# Altium footprint library TestPoint.PcbLib: 57 footprints (part 3 of 4)
Each footprint in its own frame and in the unit in brackets; x right, y up, seen from the top. Pads: shape width x height; smd on the part's side, far side on the other; paste and mask are expansions set on the pad; w line width, h text height; cw(c..) or ccw(c..) is an arc to the next point about the centre after c.
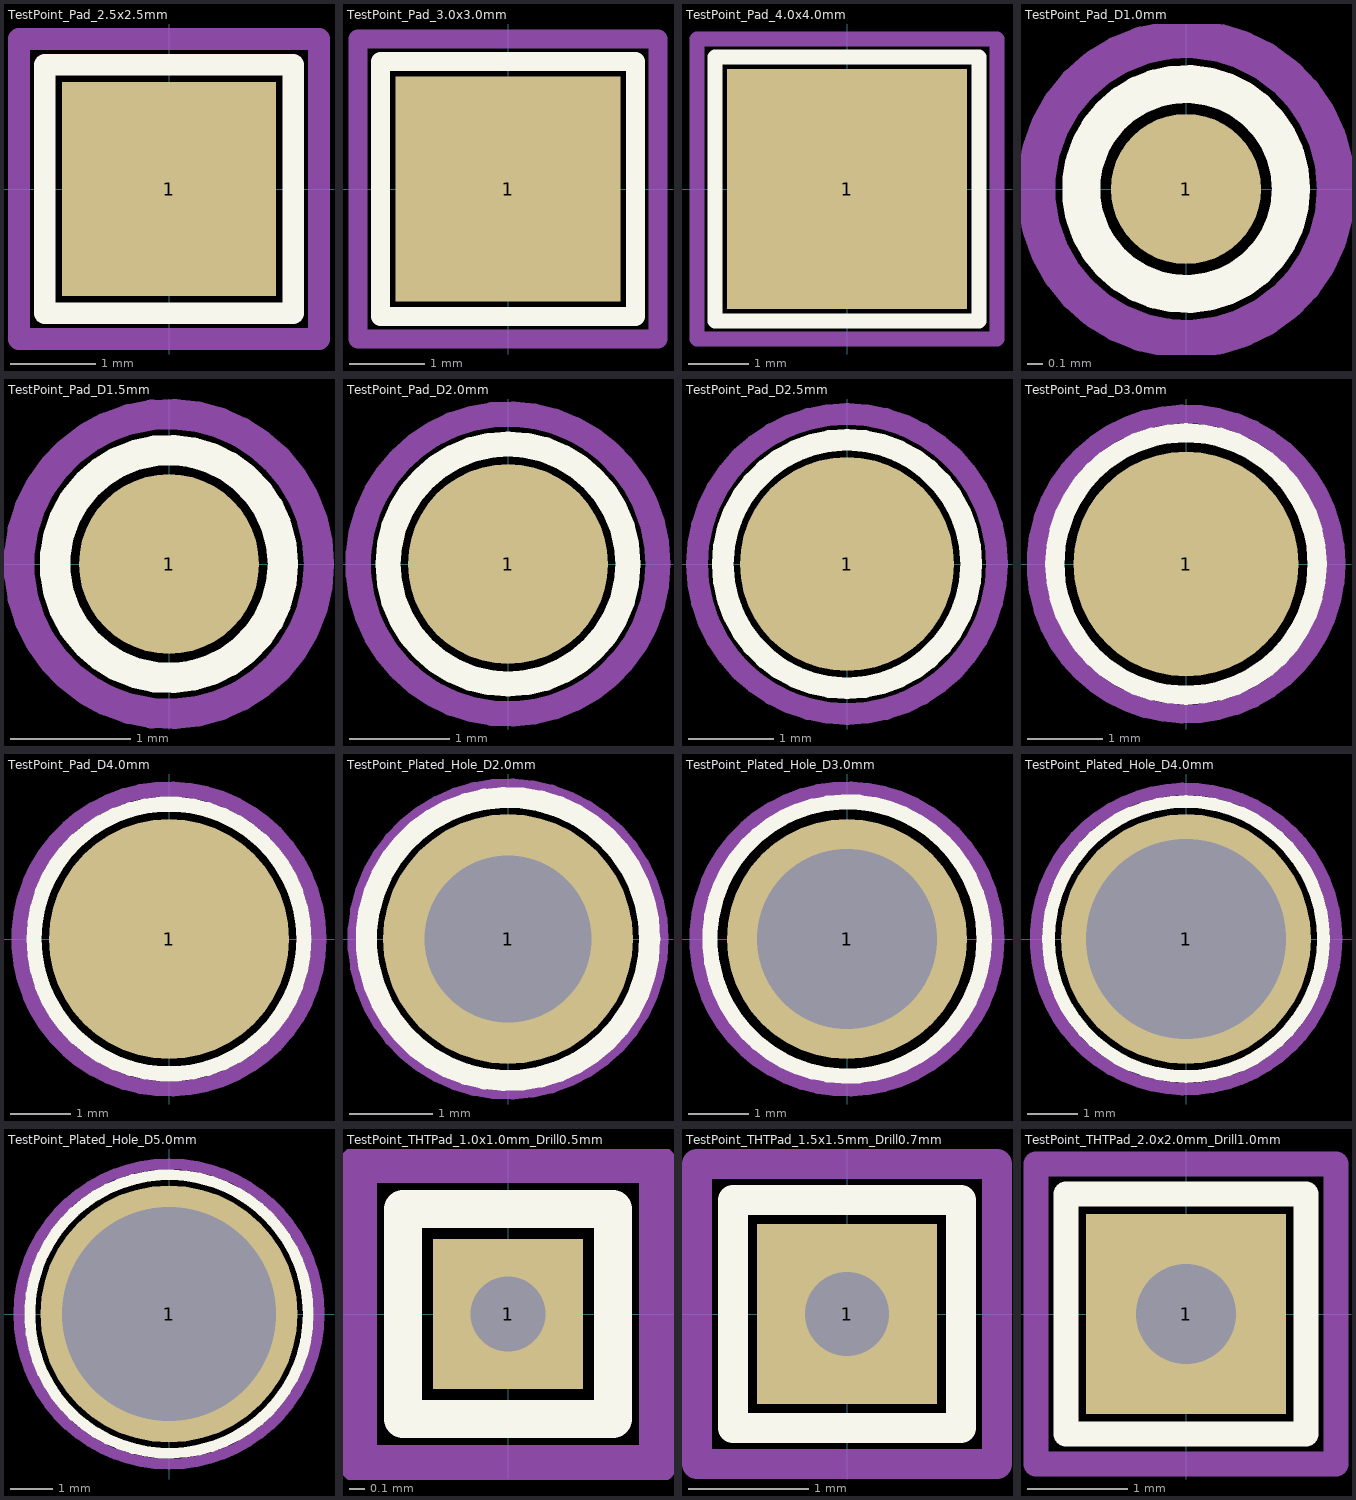
[diagram p2: the footprints below, top view; thin cyan lines are the x and y axes]

## TestPoint_Pad_2.5x2.5mm [mm]
pads (1):
  rect 2.5x2.5 smd: 1(0,0)
F.SilkS:
  lines w0.254: -1.45,-1.45 1.45,-1.45 1.45,1.45 -1.45,1.45 -1.45,-1.45
Top Assembly:
  text "'.Designator'" at -4.047,1.31 h1
Top Courtyard:
  lines w0.254: -1.75,-1.75 1.75,-1.75 1.75,1.75 -1.75,1.75 -1.75,-1.75
Top Designator:
  text ".Designator" at -7.768,-0.193 h1.52

## TestPoint_Pad_3.0x3.0mm [mm]
pads (1):
  rect 3x3 smd: 1(0,0)
F.SilkS:
  lines w0.254: -1.7,-1.7 1.7,-1.7 1.7,1.7 -1.7,1.7 -1.7,-1.7
Top Assembly:
  text "'.Designator'" at -4.047,1.56 h1
Top Courtyard:
  lines w0.254: -2,-2 2,-2 2,2 -2,2 -2,-2
Top Designator:
  text ".Designator" at -7.768,-0.193 h1.52

## TestPoint_Pad_4.0x4.0mm [mm]
pads (1):
  rect 4x4 smd: 1(0,0)
F.SilkS:
  lines w0.254: -2.2,-2.2 2.2,-2.2 2.2,2.2 -2.2,2.2 -2.2,-2.2
Top Assembly:
  text "'.Designator'" at -4.047,2.06 h1
Top Courtyard:
  lines w0.254: -2.5,-2.5 2.5,-2.5 2.5,2.5 -2.5,2.5 -2.5,-2.5
Top Designator:
  text ".Designator" at -7.768,-0.193 h1.52

## TestPoint_Pad_D1.0mm [mm]
pads (1):
  round 1 smd: 1(0,0)
F.SilkS:
  circle w0.254: c0,0 r0.7
Top Assembly:
  text "'.Designator'" at -4.047,0.61 h1
Top Courtyard:
  circle w0.254: c0,0 r1
Top Designator:
  text ".Designator" at -7.768,-0.168 h1.52

## TestPoint_Pad_D1.5mm [mm]
pads (1):
  round 1.5 smd: 1(0,0)
F.SilkS:
  circle w0.254: c0,0 r0.95
Top Assembly:
  text "'.Designator'" at -4.047,0.81 h1
Top Courtyard:
  circle w0.254: c0,0 r1.25
Top Designator:
  text ".Designator" at -7.768,-0.193 h1.52

## TestPoint_Pad_D2.0mm [mm]
pads (1):
  round 2 smd: 1(0,0)
F.SilkS:
  circle w0.254: c0,0 r1.2
Top Assembly:
  text "'.Designator'" at -4.047,1.16 h1
Top Courtyard:
  circle w0.254: c0,0 r1.5
Top Designator:
  text ".Designator" at -7.768,-0.143 h1.52

## TestPoint_Pad_D2.5mm [mm]
pads (1):
  round 2.5 smd: 1(0,0)
F.SilkS:
  circle w0.254: c0,0 r1.45
Top Assembly:
  text "'.Designator'" at -4.047,1.31 h1
Top Courtyard:
  circle w0.254: c0,0 r1.75
Top Designator:
  text ".Designator" at -7.768,-0.193 h1.52

## TestPoint_Pad_D3.0mm [mm]
pads (1):
  round 3 smd: 1(0,0)
F.SilkS:
  circle w0.254: c0,0 r1.75
Top Assembly:
  text "'.Designator'" at -4.047,1.56 h1
Top Courtyard:
  circle w0.254: c0,0 r2
Top Designator:
  text ".Designator" at -7.768,-0.193 h1.52

## TestPoint_Pad_D4.0mm [mm]
pads (1):
  round 4 smd: 1(0,0)
F.SilkS:
  circle w0.254: c0,0 r2.25
Top Assembly:
  text "'.Designator'" at -4.047,2.06 h1
Top Courtyard:
  circle w0.254: c0,0 r2.5
Top Designator:
  text ".Designator" at -7.768,-0.193 h1.52

## TestPoint_Plated_Hole_D2.0mm [mm]
pads (1):
  round 3 hole 2: 1(0,0)
F.SilkS:
  circle w0.254: c0,0 r1.7
Top Assembly:
  text "'.Designator'" at -4.047,1.66 h1
Top Courtyard:
  circle w0.254: c0,0 r1.8
Top Designator:
  text ".Designator" at -7.768,-0.043 h1.52

## TestPoint_Plated_Hole_D3.0mm [mm]
pads (1):
  round 4 hole 3: 1(0,0)
F.SilkS:
  circle w0.254: c0,0 r2.286
Top Assembly:
  text "'.Designator'" at -4.047,2.21 h1
Top Courtyard:
  circle w0.254: c0,0 r2.5
Top Designator:
  text ".Designator" at -7.768,-0.118 h1.52

## TestPoint_Plated_Hole_D4.0mm [mm]
pads (1):
  round 5 hole 4: 1(0,0)
F.SilkS:
  circle w0.254: c0,0 r2.75
Top Assembly:
  text "'.Designator'" at -4.047,2.71 h1
Top Courtyard:
  circle w0.254: c0,0 r3
Top Designator:
  text ".Designator" at -7.768,-0.118 h1.52

## TestPoint_Plated_Hole_D5.0mm [mm]
pads (1):
  round 6 hole 5: 1(0,0)
F.SilkS:
  circle w0.254: c0,0 r3.25
Top Assembly:
  text "'.Designator'" at -4.047,3.11 h1
Top Courtyard:
  circle w0.254: c0,0 r3.5
Top Designator:
  text ".Designator" at -7.768,-0.168 h1.52

## TestPoint_THTPad_1.0x1.0mm_Drill0.5mm [mm]
pads (1):
  rect 1x1 hole 0.5: 1(0,0)
F.SilkS:
  lines w0.254: -0.7,-0.7 0.7,-0.7 0.7,0.7 -0.7,0.7 -0.7,-0.7
Top Assembly:
  text "'.Designator'" at -4.047,0.61 h1
Top Courtyard:
  lines w0.254: -1,-1 1,-1 1,1 -1,1 -1,-1
Top Designator:
  text ".Designator" at -7.768,-0.168 h1.52

## TestPoint_THTPad_1.5x1.5mm_Drill0.7mm [mm]
pads (1):
  rect 1.5x1.5 hole 0.7: 1(0,0)
F.SilkS:
  lines w0.254: -0.95,-0.95 0.95,-0.95 0.95,0.95 -0.95,0.95 -0.95,-0.95
Top Assembly:
  text "'.Designator'" at -4.047,0.81 h1
Top Courtyard:
  lines w0.254: -1.25,-1.25 1.25,-1.25 1.25,1.25 -1.25,1.25 -1.25,-1.25
Top Designator:
  text ".Designator" at -7.768,-0.193 h1.52

## TestPoint_THTPad_2.0x2.0mm_Drill1.0mm [mm]
pads (1):
  rect 2x2 hole 1: 1(0,0)
F.SilkS:
  lines w0.254: -1.2,-1.2 1.2,-1.2 1.2,1.2 -1.2,1.2 -1.2,-1.2
Top Assembly:
  text "'.Designator'" at -4.047,1.16 h1
Top Courtyard:
  lines w0.254: -1.5,-1.5 1.5,-1.5 1.5,1.5 -1.5,1.5 -1.5,-1.5
Top Designator:
  text ".Designator" at -7.768,-0.143 h1.52